# EAGLE library part DUBLIB_HIROSE-SDCARD-DM3B-DSF-PEJ (library Pygmy)
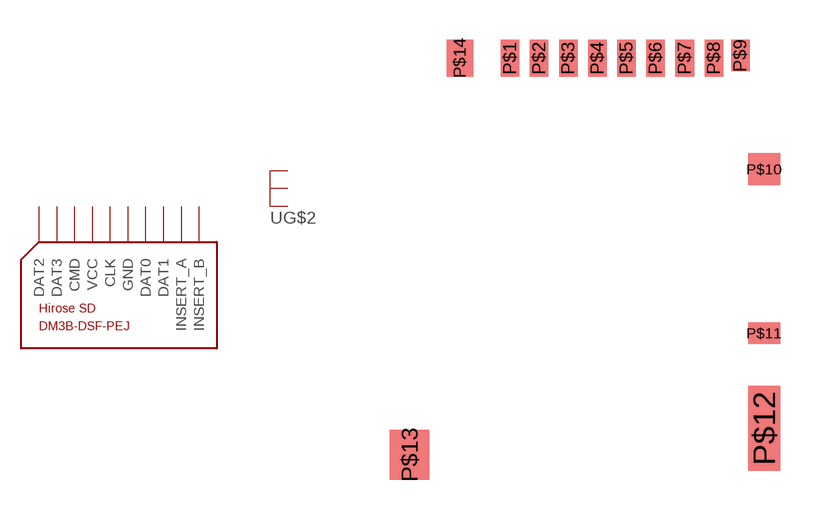
[diagram p35: symbol with the pads of HIROSE-SDCARD-DM3B-DSF-PEJ; footprint HIROSE-SDCARD-DM3B-DSF-PEJ]

Designator prefix -; gates G$1=HIROSE-SDCARD-DM3B-DSF-PEJ G$2=DUBLIB_3GND

## DUBLIB_HIROSE-SDCARD-DM3B-DSF-PEJ  [HIROSE-SDCARD-DM3B-DSF-PEJ]
P$1  G$1:DAT2
P$2  G$1:DAT3
P$3  G$1:CMD
P$4  G$1:VCC
P$5  G$1:CLK
P$6  G$1:GND
P$7  G$1:DAT0
P$8  G$1:DAT1
P$9  G$1:INSERT_A
P$11  G$1:INSERT_B
P$12  G$2:GND  pwr
P$13  G$2:GND  pwr
P$14  G$2:GND  pwr

## Footprint HIROSE-SDCARD-DM3B-DSF-PEJ (pad centres in mm)
smd 0.7 x 1.4: P$1 0,-0.7; P$2 1.1,-0.7; P$3 2.2,-0.7; P$4 3.3,-0.7; P$5 4.4,-0.7; P$6 5.5,-0.7; P$7 6.6,-0.7; P$8 7.7,-0.7
smd 0.7 x 1.2: P$9 8.7,-0.6
smd 1.2 x 1.2: P$10 9.6,-4.9
smd 1.2 x 0.8: P$11 9.6,-11.1
smd 1.2 x 3.2: P$12 9.6,-14.7
smd 1.5 x 1.9: P$13 -3.8,-15.7
smd 1 x 1.4: P$14 -1.9,-0.7